# EAGLE library part OPENLOG (library FCC_parts)
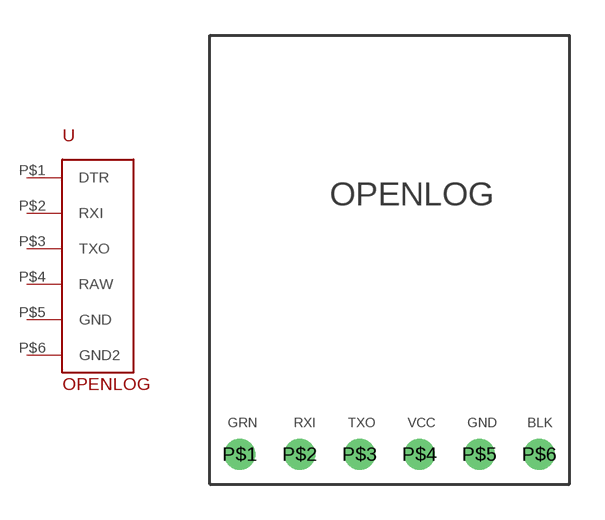
[diagram p4: symbol with the pads of OPENLOG; footprint OPENLOG]

Designator prefix -

## OPENLOG  [OPENLOG]
P$1  DTR
P$2  RXI
P$3  TXO
P$4  RAW
P$5  GND
P$6  GND2

## Footprint OPENLOG (pad centres in mm)
drill 0.8: P$1 -6.35,-8.255; P$2 -3.81,-8.255; P$3 -1.27,-8.255; P$4 1.27,-8.255; P$5 3.81,-8.255; P$6 6.35,-8.255